# Altium footprint library Fasteners & Fixings.PcbLib: 118 footprints (part 8 of 8)
Each footprint in its own frame and in the unit in brackets; x right, y up, seen from the top. Pads: shape width x height; smd on the part's side, far side on the other; paste and mask are expansions set on the pad; w line width, h text height; cw(c..) or ccw(c..) is an arc to the next point about the centre after c.
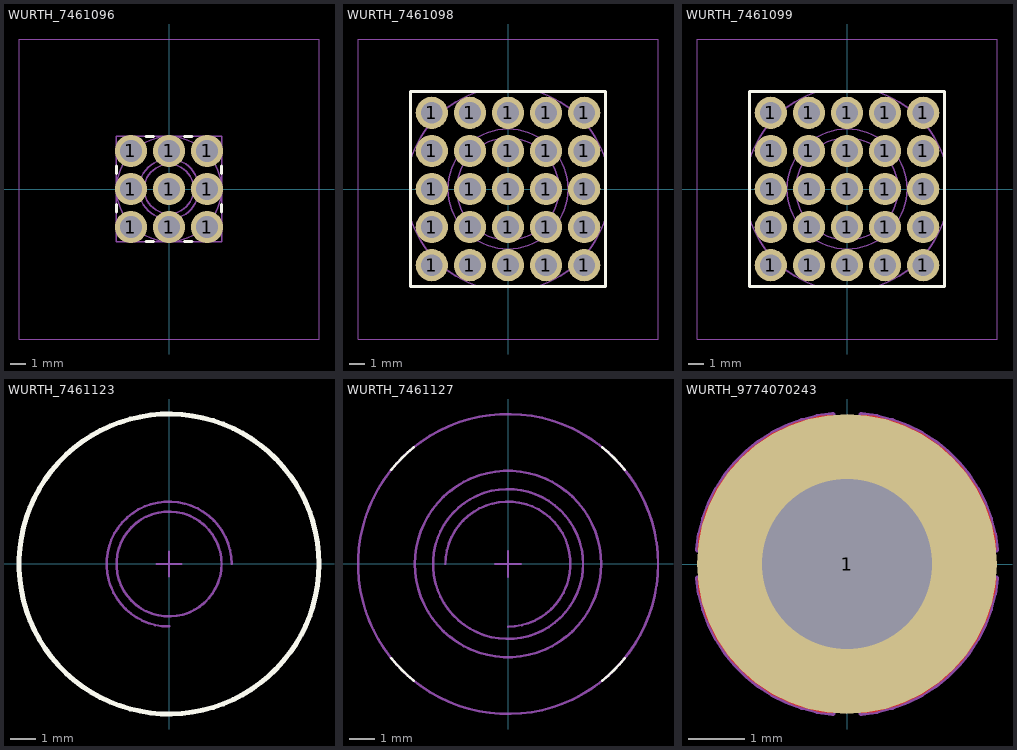
[diagram p7: the footprints below, top view; thin cyan lines are the x and y axes]

## WURTH_7461096 [mm] "Threaded Shank M4, Full Plain Pin-Plate"
height 9.2
pads (9):
  round 2.15 hole 1.45: 1(-2.54,-2.54) 1(-2.54,0) 1(-2.54,2.54) 1(0,-2.54) 1(0,0) 1(0,2.54) 1(2.54,-2.54) 1(2.54,0) 1(2.54,2.54)
Top Overlay:
  lines w0.2: -3.5,-1.521 -3.5,-1.019 ; -3.5,1.019 -3.5,1.521 ; -1.521,-3.5 -1.019,-3.5 ; -1.521,3.5 -1.019,3.5 ; 1.019,-3.5 1.521,-3.5 ; 1.019,3.5 1.521,3.5 ; 3.5,-1.521 3.5,-1.019 ; 3.5,1.019 3.5,1.521
Bottom Overlay:
  lines w0.2: -10,-10 -10,10 10,10 10,-10 -10,-10
Mechanical 8:
  lines w0.1: -3.04,-2.54 -2.54,-2.54 ; -3.04,0 -2.54,0 ; -3.04,2.54 -2.54,2.54 ; -2.54,-3.04 -2.54,-2.54 ; -2.54,-2.04 -2.54,-2.54 ; -2.54,-0.5 -2.54,0 ; -2.54,0.5 -2.54,0 ; -2.54,2.04 -2.54,2.54 ; -2.54,3.04 -2.54,2.54 ; -2.04,-2.54 -2.54,-2.54 ; -2.04,0 -2.54,0 ; -2.04,2.54 -2.54,2.54 ; -0.5,-2.54 0,-2.54 ; -0.5,0 0,0 ; -0.5,2.54 0,2.54 ; 0,-3.04 0,-2.54 ; 0,-2.04 0,-2.54 ; 0,-0.5 0,0 ; 0,0.5 0,0 ; 0,2.04 0,2.54 ; 0,3.04 0,2.54 ; 0.5,-2.54 0,-2.54 ; 0.5,0 0,0 ; 0.5,2.54 0,2.54 ; 2.04,-2.54 2.54,-2.54 ; 2.04,0 2.54,0 ; 2.04,2.54 2.54,2.54 ; 2.54,-3.04 2.54,-2.54 ; 2.54,-2.04 2.54,-2.54 ; 2.54,-0.5 2.54,0 ; 2.54,0.5 2.54,0 ; 2.54,2.04 2.54,2.54 ; 2.54,3.04 2.54,2.54 ; 3.04,-2.54 2.54,-2.54 ; 3.04,0 2.54,0 ; 3.04,2.54 2.54,2.54
Mechanical 14:
  circle w0.1: c0,0 r3.5
  circle w0.1: c0,0 r2
  circle w0.1: c0,0 r1.65
  lines w0.1: -3.5,-3.5 3.5,-3.5 3.5,3.5 -3.5,3.5 -3.5,-3.5
Mechanical 16:
  lines w0.05: -10,-10 -10,10 10,10 10,-10 -10,-10
Drill Drawing:
  lines w0.1: -4,-4 -4,4 4,4 4,-4 -4,-4
  text "+0.075 -0.025" at -5.6,-1.625 h1
  text "diam. 1.45mm" at -5.05,0.825 h1
  text "PRESS-FIT TECH." at -5.8,4.3 h1
3D body "WURTH_7461096.stp": height 9, standoff -3.5, extent -3.5,-3.5 3.5,3.5

## WURTH_7461098 [mm] "13x13x15.5mm, Threaded Shank M6, Full Plain Pin-Plate (To Be Used With Pressfit Tool)"
height 15.7
pads (25):
  round 2.15 hole 1.45: 1(-5.08,-5.08) 1(-5.08,-2.54) 1(-5.08,0) 1(-5.08,2.54) 1(-5.08,5.08) 1(-2.54,-5.08) 1(-2.54,-2.54) 1(-2.54,0) 1(-2.54,2.54) 1(-2.54,5.08) 1(0,-5.08) 1(0,-2.54) 1(0,0) 1(0,2.54) 1(0,5.08) 1(2.54,-5.08) 1(2.54,-2.54) 1(2.54,0) 1(2.54,2.54) 1(2.54,5.08) 1(5.08,-5.08) 1(5.08,-2.54) 1(5.08,0) 1(5.08,2.54) 1(5.08,5.08)
Top Overlay:
  lines w0.2: -6.5,-6.5 -6.5,6.5 6.5,6.5 6.5,-6.5 -6.5,-6.5
Bottom Overlay:
  lines w0.2: -10,-10 -10,10 10,10 10,-10 -10,-10
Mechanical 8:
  lines w0.1: -5.58,-5.08 -5.08,-5.08 ; -5.58,-2.54 -5.08,-2.54 ; -5.58,0 -5.08,0 ; -5.58,2.54 -5.08,2.54 ; -5.58,5.08 -5.08,5.08 ; -5.08,-5.58 -5.08,-5.08 ; -5.08,-4.58 -5.08,-5.08 ; -5.08,-3.04 -5.08,-2.54 ; -5.08,-2.04 -5.08,-2.54 ; -5.08,-0.5 -5.08,0 ; -5.08,0.5 -5.08,0 ; -5.08,2.04 -5.08,2.54 ; -5.08,3.04 -5.08,2.54 ; -5.08,4.58 -5.08,5.08 ; -5.08,5.58 -5.08,5.08 ; -4.58,-5.08 -5.08,-5.08 ; -4.58,-2.54 -5.08,-2.54 ; -4.58,0 -5.08,0 ; -4.58,2.54 -5.08,2.54 ; -4.58,5.08 -5.08,5.08 ; -3.04,-5.08 -2.54,-5.08 ; -3.04,-2.54 -2.54,-2.54 ; -3.04,0 -2.54,0 ; -3.04,2.54 -2.54,2.54 ; -3.04,5.08 -2.54,5.08 ; -2.54,-5.58 -2.54,-5.08 ; -2.54,-4.58 -2.54,-5.08 ; -2.54,-3.04 -2.54,-2.54 ; -2.54,-2.04 -2.54,-2.54 ; -2.54,-0.5 -2.54,0 ; -2.54,0.5 -2.54,0 ; -2.54,2.04 -2.54,2.54 ; -2.54,3.04 -2.54,2.54 ; -2.54,4.58 -2.54,5.08 ; -2.54,5.58 -2.54,5.08 ; -2.04,-5.08 -2.54,-5.08 ; -2.04,-2.54 -2.54,-2.54 ; -2.04,0 -2.54,0 ; -2.04,2.54 -2.54,2.54 ; -2.04,5.08 -2.54,5.08 ; -0.5,-5.08 0,-5.08 ; -0.5,-2.54 0,-2.54 ; -0.5,0 0,0 ; -0.5,2.54 0,2.54 ; -0.5,5.08 0,5.08 ; 0,-5.58 0,-5.08 ; 0,-4.58 0,-5.08 ; 0,-3.04 0,-2.54 ; 0,-2.04 0,-2.54 ; 0,-0.5 0,0 ; 0,0.5 0,0 ; 0,2.04 0,2.54 ; 0,3.04 0,2.54 ; 0,4.58 0,5.08 ; 0,5.58 0,5.08 ; 0.5,-5.08 0,-5.08 ; 0.5,-2.54 0,-2.54 ; 0.5,0 0,0 ; 0.5,2.54 0,2.54 ; 0.5,5.08 0,5.08 ; 2.04,-5.08 2.54,-5.08 ; 2.04,-2.54 2.54,-2.54 ; 2.04,0 2.54,0 ; 2.04,2.54 2.54,2.54 ; 2.04,5.08 2.54,5.08 ; 2.54,-5.58 2.54,-5.08 ; 2.54,-4.58 2.54,-5.08 ; 2.54,-3.04 2.54,-2.54 ; 2.54,-2.04 2.54,-2.54 ; 2.54,-0.5 2.54,0 ; 2.54,0.5 2.54,0 ; 2.54,2.04 2.54,2.54 ; 2.54,3.04 2.54,2.54 ; 2.54,4.58 2.54,5.08 ; 2.54,5.58 2.54,5.08 ; 3.04,-5.08 2.54,-5.08 ; 3.04,-2.54 2.54,-2.54 ; 3.04,0 2.54,0 ; 3.04,2.54 2.54,2.54 ; 3.04,5.08 2.54,5.08 ; 4.58,-5.08 5.08,-5.08 ; 4.58,-2.54 5.08,-2.54 ; 4.58,0 5.08,0 ; 4.58,2.54 5.08,2.54 ; 4.58,5.08 5.08,5.08 ; 5.08,-5.58 5.08,-5.08 ; 5.08,-4.58 5.08,-5.08 ; 5.08,-3.04 5.08,-2.54 ; 5.08,-2.04 5.08,-2.54 ; 5.08,-0.5 5.08,0 ; 5.08,0.5 5.08,0 ; 5.08,2.04 5.08,2.54 ; 5.08,3.04 5.08,2.54 ; 5.08,4.58 5.08,5.08 ; 5.08,5.58 5.08,5.08 ; 5.58,-5.08 5.08,-5.08 ; 5.58,-2.54 5.08,-2.54 ; 5.58,0 5.08,0 ; 5.58,2.54 5.08,2.54 ; 5.58,5.08 5.08,5.08
Mechanical 14:
  circle w0.1: c0,0 r4
  circle w0.1: c0,0 r3.4
  lines w0.1: -6.5,-1.881 ccw(c0,0) -1.881,-6.5 ; -6.5,1.881 cw(c0,0) -1.881,6.5 ; 1.881,-6.5 ccw(c0,0) 6.5,-1.881 ; 1.881,6.5 cw(c0,0) 6.5,1.881 ; -6.5,-6.5 -6.5,6.5 6.5,6.5 6.5,-6.5 -6.5,-6.5
Mechanical 16:
  lines w0.05: -10,-10 -10,10 10,10 10,-10 -10,-10
Drill Drawing:
  lines w0.1: -6.5,-6.5 6.5,-6.5 6.5,6.5 -6.5,6.5 -6.5,-6.5
  text "PRESS-FIT TECH." at -5.875,3.275 h1
  text "diam. 1.45mm" at -5.05,0.825 h1
  text "+0.075 -0.025" at -5.6,-1.625 h1
3D body "WURTH_7461098.stp": height 15.5, standoff -3.5, extent -6.5,-6.5 6.5,6.5

## WURTH_7461099 [mm] "13x13x17mm, Bushe With Threaded Hole M8, Full Plain Pin-Plate  (To Be Used With Pressfit Tool)"
height 17
pads (25):
  round 2.15 hole 1.45: 1(-5.08,-5.08) 1(-5.08,-2.54) 1(-5.08,0) 1(-5.08,2.54) 1(-5.08,5.08) 1(-2.54,-5.08) 1(-2.54,-2.54) 1(-2.54,0) 1(-2.54,2.54) 1(-2.54,5.08) 1(0,-5.08) 1(0,-2.54) 1(0,0) 1(0,2.54) 1(0,5.08) 1(2.54,-5.08) 1(2.54,-2.54) 1(2.54,0) 1(2.54,2.54) 1(2.54,5.08) 1(5.08,-5.08) 1(5.08,-2.54) 1(5.08,0) 1(5.08,2.54) 1(5.08,5.08)
Top Overlay:
  lines w0.2: -6.5,-6.5 6.5,-6.5 6.5,6.5 -6.5,6.5 -6.5,-6.5
Bottom Overlay:
  lines w0.2: -10,-10 10,-10 10,10 -10,10 -10,-10
Mechanical 8:
  lines w0.1: -5.58,-5.08 -5.08,-5.08 ; -5.58,-2.54 -5.08,-2.54 ; -5.58,0 -5.08,0 ; -5.58,2.54 -5.08,2.54 ; -5.58,5.08 -5.08,5.08 ; -5.08,-5.58 -5.08,-5.08 ; -5.08,-4.58 -5.08,-5.08 ; -5.08,-3.04 -5.08,-2.54 ; -5.08,-2.04 -5.08,-2.54 ; -5.08,-0.5 -5.08,0 ; -5.08,0.5 -5.08,0 ; -5.08,2.04 -5.08,2.54 ; -5.08,3.04 -5.08,2.54 ; -5.08,4.58 -5.08,5.08 ; -5.08,5.58 -5.08,5.08 ; -4.58,-5.08 -5.08,-5.08 ; -4.58,-2.54 -5.08,-2.54 ; -4.58,0 -5.08,0 ; -4.58,2.54 -5.08,2.54 ; -4.58,5.08 -5.08,5.08 ; -3.04,-5.08 -2.54,-5.08 ; -3.04,-2.54 -2.54,-2.54 ; -3.04,0 -2.54,0 ; -3.04,2.54 -2.54,2.54 ; -3.04,5.08 -2.54,5.08 ; -2.54,-5.58 -2.54,-5.08 ; -2.54,-4.58 -2.54,-5.08 ; -2.54,-3.04 -2.54,-2.54 ; -2.54,-2.04 -2.54,-2.54 ; -2.54,-0.5 -2.54,0 ; -2.54,0.5 -2.54,0 ; -2.54,2.04 -2.54,2.54 ; -2.54,3.04 -2.54,2.54 ; -2.54,4.58 -2.54,5.08 ; -2.54,5.58 -2.54,5.08 ; -2.04,-5.08 -2.54,-5.08 ; -2.04,-2.54 -2.54,-2.54 ; -2.04,0 -2.54,0 ; -2.04,2.54 -2.54,2.54 ; -2.04,5.08 -2.54,5.08 ; -0.5,-5.08 0,-5.08 ; -0.5,-2.54 0,-2.54 ; -0.5,0 0,0 ; -0.5,2.54 0,2.54 ; -0.5,5.08 0,5.08 ; 0,-5.58 0,-5.08 ; 0,-4.58 0,-5.08 ; 0,-3.04 0,-2.54 ; 0,-2.04 0,-2.54 ; 0,-0.5 0,0 ; 0,0.5 0,0 ; 0,2.04 0,2.54 ; 0,3.04 0,2.54 ; 0,4.58 0,5.08 ; 0,5.58 0,5.08 ; 0.5,-5.08 0,-5.08 ; 0.5,-2.54 0,-2.54 ; 0.5,0 0,0 ; 0.5,2.54 0,2.54 ; 0.5,5.08 0,5.08 ; 2.04,-5.08 2.54,-5.08 ; 2.04,-2.54 2.54,-2.54 ; 2.04,0 2.54,0 ; 2.04,2.54 2.54,2.54 ; 2.04,5.08 2.54,5.08 ; 2.54,-5.58 2.54,-5.08 ; 2.54,-4.58 2.54,-5.08 ; 2.54,-3.04 2.54,-2.54 ; 2.54,-2.04 2.54,-2.54 ; 2.54,-0.5 2.54,0 ; 2.54,0.5 2.54,0 ; 2.54,2.04 2.54,2.54 ; 2.54,3.04 2.54,2.54 ; 2.54,4.58 2.54,5.08 ; 2.54,5.58 2.54,5.08 ; 3.04,-5.08 2.54,-5.08 ; 3.04,-2.54 2.54,-2.54 ; 3.04,0 2.54,0 ; 3.04,2.54 2.54,2.54 ; 3.04,5.08 2.54,5.08 ; 4.58,-5.08 5.08,-5.08 ; 4.58,-2.54 5.08,-2.54 ; 4.58,0 5.08,0 ; 4.58,2.54 5.08,2.54 ; 4.58,5.08 5.08,5.08 ; 5.08,-5.58 5.08,-5.08 ; 5.08,-4.58 5.08,-5.08 ; 5.08,-3.04 5.08,-2.54 ; 5.08,-2.04 5.08,-2.54 ; 5.08,-0.5 5.08,0 ; 5.08,0.5 5.08,0 ; 5.08,2.04 5.08,2.54 ; 5.08,3.04 5.08,2.54 ; 5.08,4.58 5.08,5.08 ; 5.08,5.58 5.08,5.08 ; 5.58,-5.08 5.08,-5.08 ; 5.58,-2.54 5.08,-2.54 ; 5.58,0 5.08,0 ; 5.58,2.54 5.08,2.54 ; 5.58,5.08 5.08,5.08
Mechanical 14:
  circle w0.1: c0,0 r3.4
  circle w0.1: c0,0 r4
  lines w0.1: -6.5,-1.881 ccw(c0,0) -1.881,-6.5 ; -6.5,1.881 cw(c0,0) -1.881,6.5 ; 1.881,-6.5 ccw(c0,0) 6.5,-1.881 ; 1.881,6.5 cw(c0,0) 6.5,1.881 ; -6.5,-6.5 6.5,-6.5 6.5,6.5 -6.5,6.5 -6.5,-6.5
Mechanical 16:
  lines w0.05: -10,-10 10,-10 10,10 -10,10 -10,-10
Drill Drawing:
  lines w0.1: -6.5,-6.5 -6.5,6.5 6.5,6.5 6.5,-6.5 -6.5,-6.5
  text "diam. 1.45mm" at -5.05,0.825 h1
  text "PRESS-FIT TECH." at -5.875,3.275 h1
  text "+0.075 -0.025" at -5.6,-1.625 h1
3D body "WURTH_7461099.stp": height 17, standoff -3.5, extent -6.5,-6.5 6.5,6.5

## WURTH_7461123 [mm] "12mm Diameter, Support Element Bush with Internal Thread M5"
height 8.4
Top Overlay:
  circle w0.2: c0,0 r6
Mechanical 8:
  lines w0.1: -0.5,0 0,0 ; 0,-0.5 0,0 ; 0,0.5 0,0 ; 0.5,0 0,0
Mechanical 14:
  circle w0.1: c0,0 r2.1
  circle w0.1: c0,0 r6
  lines w0.1: 0,-2.5 cw(c0,0) 2.5,0
3D body "WURTH_7461123.stp": height 2, standoff -6.4, extent -6,-5.998 6,5.998

## WURTH_7461127 [mm] "12mm Diameter, Support Element with Threaded Shank M6"
height 18.4
Top Overlay:
  lines w0.1: -4.673,-3.764 ccw(c0,0) -3.764,-4.673 ; -4.673,3.764 cw(c0,0) -3.764,4.673 ; 3.764,-4.673 ccw(c0,0) 4.673,-3.764 ; 3.764,4.673 cw(c0,0) 4.673,3.764
Mechanical 8:
  lines w0.1: -0.5,0 0,0 ; 0,-0.5 0,0 ; 0,0.5 0,0 ; 0.5,0 0,0
Mechanical 14:
  circle w0.1: c0,0 r6
  circle w0.1: c0,0 r3
  circle w0.1: c0,0 r3.725
  lines w0.1: -2.5,0 cw(c0,0) 0,-2.5
3D body "WURTH_7461127.stp": height 2.1, standoff -16.4, extent -5.969,-5.992 6,5.992

## WURTH_9774070243 [mm] "4.35mm Diameter, SMT Steel Spacer Bush with Internal Thread M2"
height 8.5
pads (1):
  round 5.3 hole 3: 1(0,0)
Top Layer:
  region: 0.25,2.638 0.478,2.617 0.921,2.495 1.336,2.3 1.712,2.036 2.036,1.712 2.3,1.336 2.495,0.921 2.617,0.478 2.638,0.25 1.479,0.25 1.455,0.363 1.382,0.583 1.276,0.789 1.139,0.976 0.976,1.139 0.789,1.276 0.583,1.382 0.363,1.455 0.25,1.479
  region: 2.638,-0.25 2.617,-0.478 2.495,-0.921 2.3,-1.336 2.036,-1.712 1.712,-2.036 1.336,-2.3 0.921,-2.495 0.478,-2.617 0.25,-2.638 0.25,-1.479 0.363,-1.455 0.583,-1.382 0.789,-1.276 0.976,-1.139 1.139,-0.976 1.276,-0.789 1.382,-0.583 1.455,-0.363 1.479,-0.25
  region: -0.25,-2.638 -0.478,-2.617 -0.921,-2.495 -1.336,-2.3 -1.712,-2.036 -2.036,-1.712 -2.3,-1.336 -2.495,-0.921 -2.617,-0.478 -2.638,-0.25 -1.479,-0.25 -1.455,-0.363 -1.382,-0.583 -1.276,-0.789 -1.139,-0.976 -0.976,-1.139 -0.789,-1.276 -0.583,-1.382 -0.363,-1.455 -0.25,-1.479
  region: -2.638,0.25 -2.617,0.478 -2.495,0.921 -2.3,1.336 -2.036,1.712 -1.712,2.036 -1.336,2.3 -0.921,2.495 -0.478,2.617 -0.25,2.638 -0.25,1.479 -0.363,1.455 -0.583,1.382 -0.789,1.276 -0.976,1.139 -1.139,0.976 -1.276,0.789 -1.382,0.583 -1.455,0.363 -1.479,0.25
Mechanical 8:
  lines w0.1: -0.5,0 0,0 ; 0,-0.5 0,0 ; 0,0.5 0,0 ; 0.5,0 0,0 ; 1.479,-0.25 2.638,-0.25 cw(c0,0) 0.25,-2.638 0.25,-1.479 ccw(c0,0) 0.25,1.479 0.25,2.638 cw(c0,0) 2.638,0.25 1.479,0.25 ; 2.06,-0.25 cw(c0,0) 2.06,0.25 ; -2.638,-0.25 ccw(c0,0) -0.25,-2.638 -0.25,-1.479 cw(c0,0) -1.479,-0.25 -2.638,-0.25 ; -2.638,0.25 cw(c0,0) -0.25,2.638 -0.25,1.479 ccw(c0,0) -1.479,0.25 -2.638,0.25
Mechanical 14:
  circle w0.1: c0,0 r1.05
  circle w0.1: c0,0 r1.4
  circle w0.1: c0,0 r2.175
3D body "WURTH_9774070243.stp": height 7, standoff -1.4, extent -2.175,-2.172 2.175,2.172